# EAGLE library part MICROSD_SOCKET (library lib_stankus)
microSD socket - deprecated, use MICROSD_SOCKET_ALT Farnell #1366700
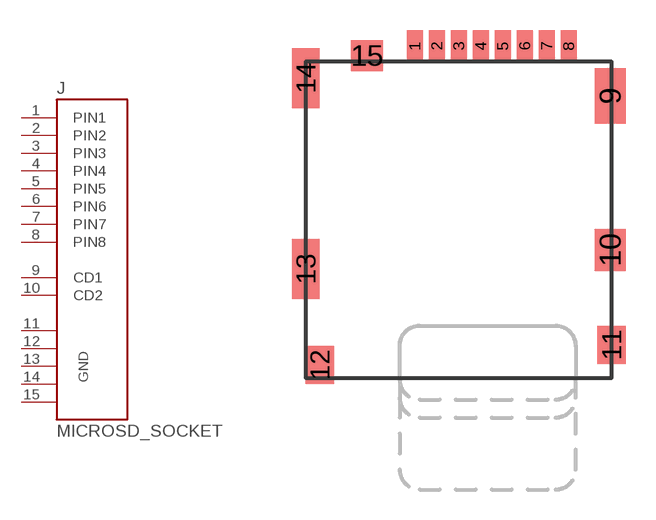
[diagram p33: symbol with the pads of MICROSD_SOCKET; footprint MICROSD_SOCKET]

Designator prefix J

## MICROSD_SOCKET  [MICROSD_SOCKET]
1  PIN1  pas
2  PIN2  pas
3  PIN3  pas
4  PIN4  pas
5  PIN5  pas
6  PIN6  pas
7  PIN7  pas
8  PIN8  pas
9  CD1  pas
10  CD2  pas
11  GND  pas
12  GND  pas
13  GND  pas
14  GND  pas
15  GND  pas

## Footprint MICROSD_SOCKET (pad centres in mm)
MICROSD SOCKET
smd 0.8 x 1.6: 1 -2.03,8.2; 2 -0.93,8.2; 3 0.17,8.2; 4 1.27,8.2; 5 2.37,8.2; 6 3.47,8.2; 7 4.57,8.2; 8 5.67,8.2
smd 1.55 x 2.8: 9 7.735,5.7
smd 1.55 x 2.1: 10 7.735,-2
smd 1.4 x 1.9: 11 7.81,-6.75; 12 -6.79,-7.75
smd 1.4 x 3: 13 -7.49,-2.95; 14 -7.49,6.6
smd 1.6 x 1.55: 15 -4.43,7.725